# Altium schematic symbol library GTFP08131Y2HR.SchLib: 2 symbols
Pins are listed as number, name and electrical type; pins without a type are passive.

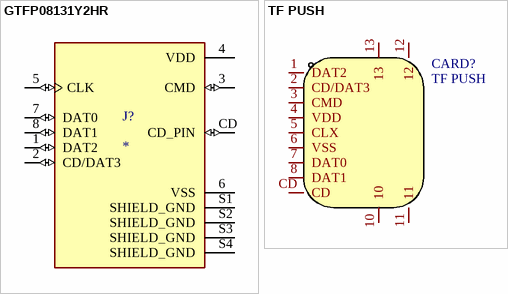
[diagram p0: symbols GTFP08131Y2HR to TF PUSH]

## GTFP08131Y2HR
designator J?
MF: {'manufacturer': u'Amphenol Commercial Products'}; MP: GTFP08131Y2HR; Package: None; Price: None; Value: *; Availability: Unavailable
footprint AMPHENOL_GTFP08131Y2HR
pins: 1 DAT2 (io), 2 CD/DAT3 (io), 3 CMD (io), 4 VDD (power), 5 CLK (io), 6 VSS (power), 7 DAT0 (io), 8 DAT1 (io), CD CD_PIN (io), S1 SHIELD_GND (power), S2 SHIELD_GND (power), S3 SHIELD_GND (power), S4 SHIELD_GND (power)

## TF PUSH
designator CARD?
卡类型:MicroSD卡(TF卡);连接器类型:卡座;卡连接方式:自弹式;本体最大高度:2mm;工作温度范围:-20℃~+90℃;; Manufacturer: SHOU HAN(首韩); Add into BOM: yes; Connector Type: 卡座; Card Connection Mode: 自弹式; Maximum Body Height: 2mm; Symbol: TF PUSH; Device: TF PUSH; LCSC Part Name: 自弹式TF卡座 TF外焊式内存卡卡座; Supplier Part: C393941; Manufacturer Part: TF PUSH; Supplier Footprint: SMD; JLCPCB Part Class: Extended Part; Datasheet: https://atta.szlcsc.com/upload/public/pdf/source/20191011/C393941_0DDD896EE907FEB750D8B7B8982E2A67.pdf; Supplier: LCSC; Convert to PCB: yes; Card Type: MicroSD卡(TF卡); Operating Temperature Range: -20℃~+90℃; Name: TF PUSH
footprint TF-SMD_TF-PUSH
pins: 1 DAT2, 2 CD/DAT3, 3 CMD, 4 VDD, 5 CLX, 6 VSS, 7 DAT0, 8 DAT1, 10, 11, 12, 13, CD